# EAGLE library part TPS54260 (library power-supplies)
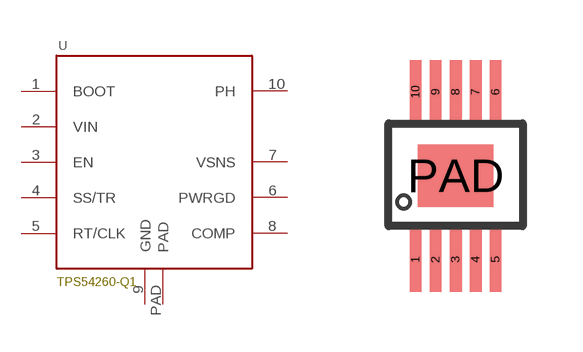
[diagram p0: symbol with the pads of S-PDSO-G10; footprint S-PDSO-G10]

Designator prefix U

## TPS54260  [S-PDSO-G10]
1  BOOT
2  VIN
3  EN
4  SS/TR
5  RT/CLK
6  PWRGD
7  VSNS
8  COMP
9  GND
10  PH
PAD  PAD

## Footprint S-PDSO-G10 (pad centres in mm)
DGN (S-PDSO-G8) PowerPAD (TM) Plastic Small-Outline Package Source: http://focus.ti.com/lit/ds/symlink/ths4211.pdf
smd 0.3 x 1.6: 1 0,0; 2 0.5,0; 3 1,0; 4 1.5,0; 5 2,0; 6 2,4.2; 7 1.5,4.2; 8 1,4.2; 9 0.5,4.2; 10 0,4.2
smd 1.88 x 1.57: PAD 1,2.1